# Altium schematic symbol library AudioEqualizer.SchLib: 13 symbols
Pins are listed as number, name and electrical type; pins without a type are passive.

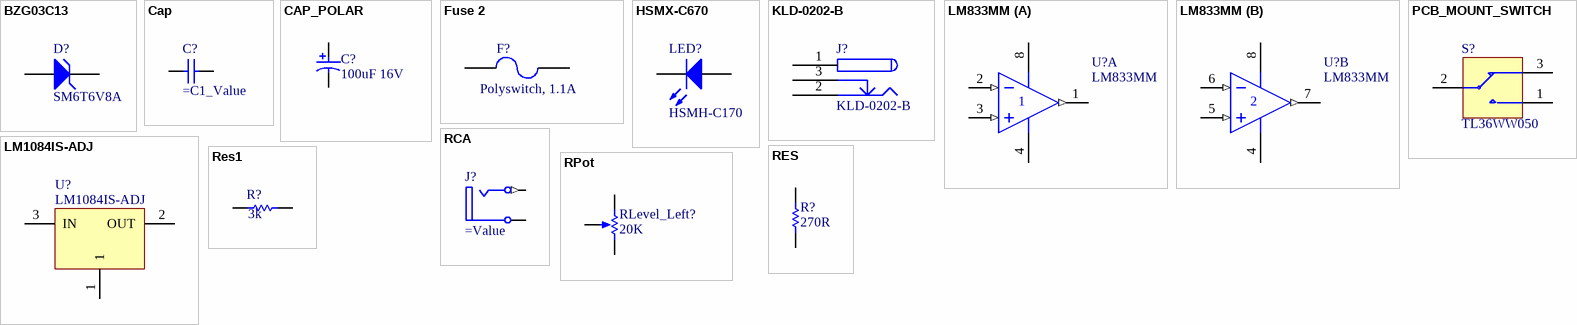
[diagram p0: symbols BZG03C13 to RPot]

## BZG03C13
designator D?, comment SM6T6V8A
Zener Diode, 6.2V, 5W; Manufacturer: Microsemi; Revision: 31-Oct-2003
footprint DO214
pins: 1 A, 2 K

## Cap
designator C?
Capacitor; Published: 8-Jun-2000; LatestRevisionDate: 17-Jul-2002; LatestRevisionNote: Re-released for DXP Platform.; Publisher: Altium Limited; Value: =C1_Value
simulation model CAP (Capacitor)
signal-integrity model Cap
footprint C1206
pins: 1, 2

## CAP_POLAR
designator C?, comment 100uF 16V
Polar Capacitor
footprint MCCT-B
pins: 1, 2

## Fuse 2
designator F?, comment Polyswitch, 1.1A
Polyswitch 1.1A, Raychem RUE110; Revision: July-2002: Re-released for DXP Platform.; Supplier: FARNELL; Supplier Code: 608-907
footprint PIN-W2/E2.8
simulation model FUSE (Spice Subcircuit)
pins: 1, 2

## HSMX-C670
designator LED?, comment HSMH-C170
Typical RED GaAs SMD LED Agilent make; AEMS Code: 2610081; Revision: July-2002: Re-released for DXP Platform.
footprint SMD _LED
simulation model LED1 (Diode)
pins: 1 A, 2 K

## KLD-0202-B
designator J?
Low Voltage Power Supply Connector; Manufacturer: Kycon; AEMS Code: 3510211
footprint KLD-0202
pins: 1 (power), 1A (power), 1B (power), 2 (power), 2A (power), 2B (power), 3 (power), 3A (power), 3B (power)

## LM833MM
designator U?
Dual Audio Operational Amplifier; PackageDocument: 2000; Published: 15-Apr-2002; LatestRevisionDate: 06-Jun-2005; LatestRevisionNote: Stylized 3D Model Added.; DatasheetDocument: Aug-1997; PackageReference: MUA08A; Publisher: Altium Limited; ComponentLink1Description: Manufacturer Link; ComponentLink1URL: http://www.national.com/; ComponentLink2Description: Datasheet; ComponentLink2URL: http://www.national.com/ds.cgi/LM/LM833.pdf; ComponentLink3Description: URL Link1; ComponentLink3URL: http://www.national.com/pf/LM/LM833.html
footprint MUA08A
3D model MUA08A (Shrink Small Outline; 8 Leads; Body Width 3 mm; Pitch 0.65 mm)
simulation model LM833 (SUBCKT)
pins on every part: 4 V- (power), 8 V+ (power)
part A pins: 1 OUT (out), 2 IN- (in), 3 IN+ (in)
part B pins: 5 IN+ (in), 6 IN- (in), 7 OUT (out)

## LM1084IS-ADJ
designator U?
5A Low Dropout Possitive Regulators
footprint TO-263
pins: 1 "Output", 2 OUT (power) "Output", 3 IN (power) "Input"

## PCB_MOUNT_SWITCH
designator S?, comment TL36WW050
SPDT Subminiature Toggle Switch; Supplier: FARNELL; Supplier Code: 150-559
footprint B3FS_SWITCH
pins: 1, 2, 3

## RCA
designator J?
RCA Phono Jack, Right Angle, Thru-Hole, Snap-In; PCB_Layout: Complies with manufacturer's recommendation.; DrillAndSlotSize: Corresponds to nominal value.; Published: 15-Jul-2004; LatestRevisionDate: 15-Jul-2004; LatestRevisionNote: Component Replaced.; DatasheetDocument: 7-Jul-2000; PackageDocument: 7-Jul-2000; PackageReference: 161; Publisher: Altium Limited; ComponentLink1Description: Manufacturer Link; ComponentLink1URL: http://www.mouser.com/kobiconn/
footprint RCA/4.5-H2
signal-integrity model RCA
pins: 1A Ground (power) "Outer Shield (Sleeve)", 2B Signal (out) "Center Pin (Plug Tip)"

## RES
designator R?, comment 270R
Resistor; AEMS Code: 1200430
footprint 3216[1206]
pins: 1, 2

## Res1
designator R?, comment 3k
Resistor; Published: 8-Jun-2000; LatestRevisionDate: 17-Jul-2002; LatestRevisionNote: Re-released for DXP Platform.; Publisher: Altium Limited; Value: 3k
simulation model RESISTOR (Resistor)
signal-integrity model Res
footprint 3216[1206]
pins: 1, 2

## RPot
designator RLevel_Left?  value 20K  (hidden comment: RPot)
Potentiometer; Sim Note: Enter the Resistance value and the set point into parameter fields.; Set Position: 0.5; Published: 8-Jun-2000; LatestRevisionDate: 17-Jul-2002; LatestRevisionNote: Re-released for DXP Platform.; Publisher: Altium Limited
footprint VR5
simulation model POT (Potentiometer)
pins: 1 TOP, 2 BOT, 3 TAP
1 alternate drawing of the same symbol